# Altium schematic symbol library Interface_I2C.SchLib: 424 symbols (part 8 of 23)
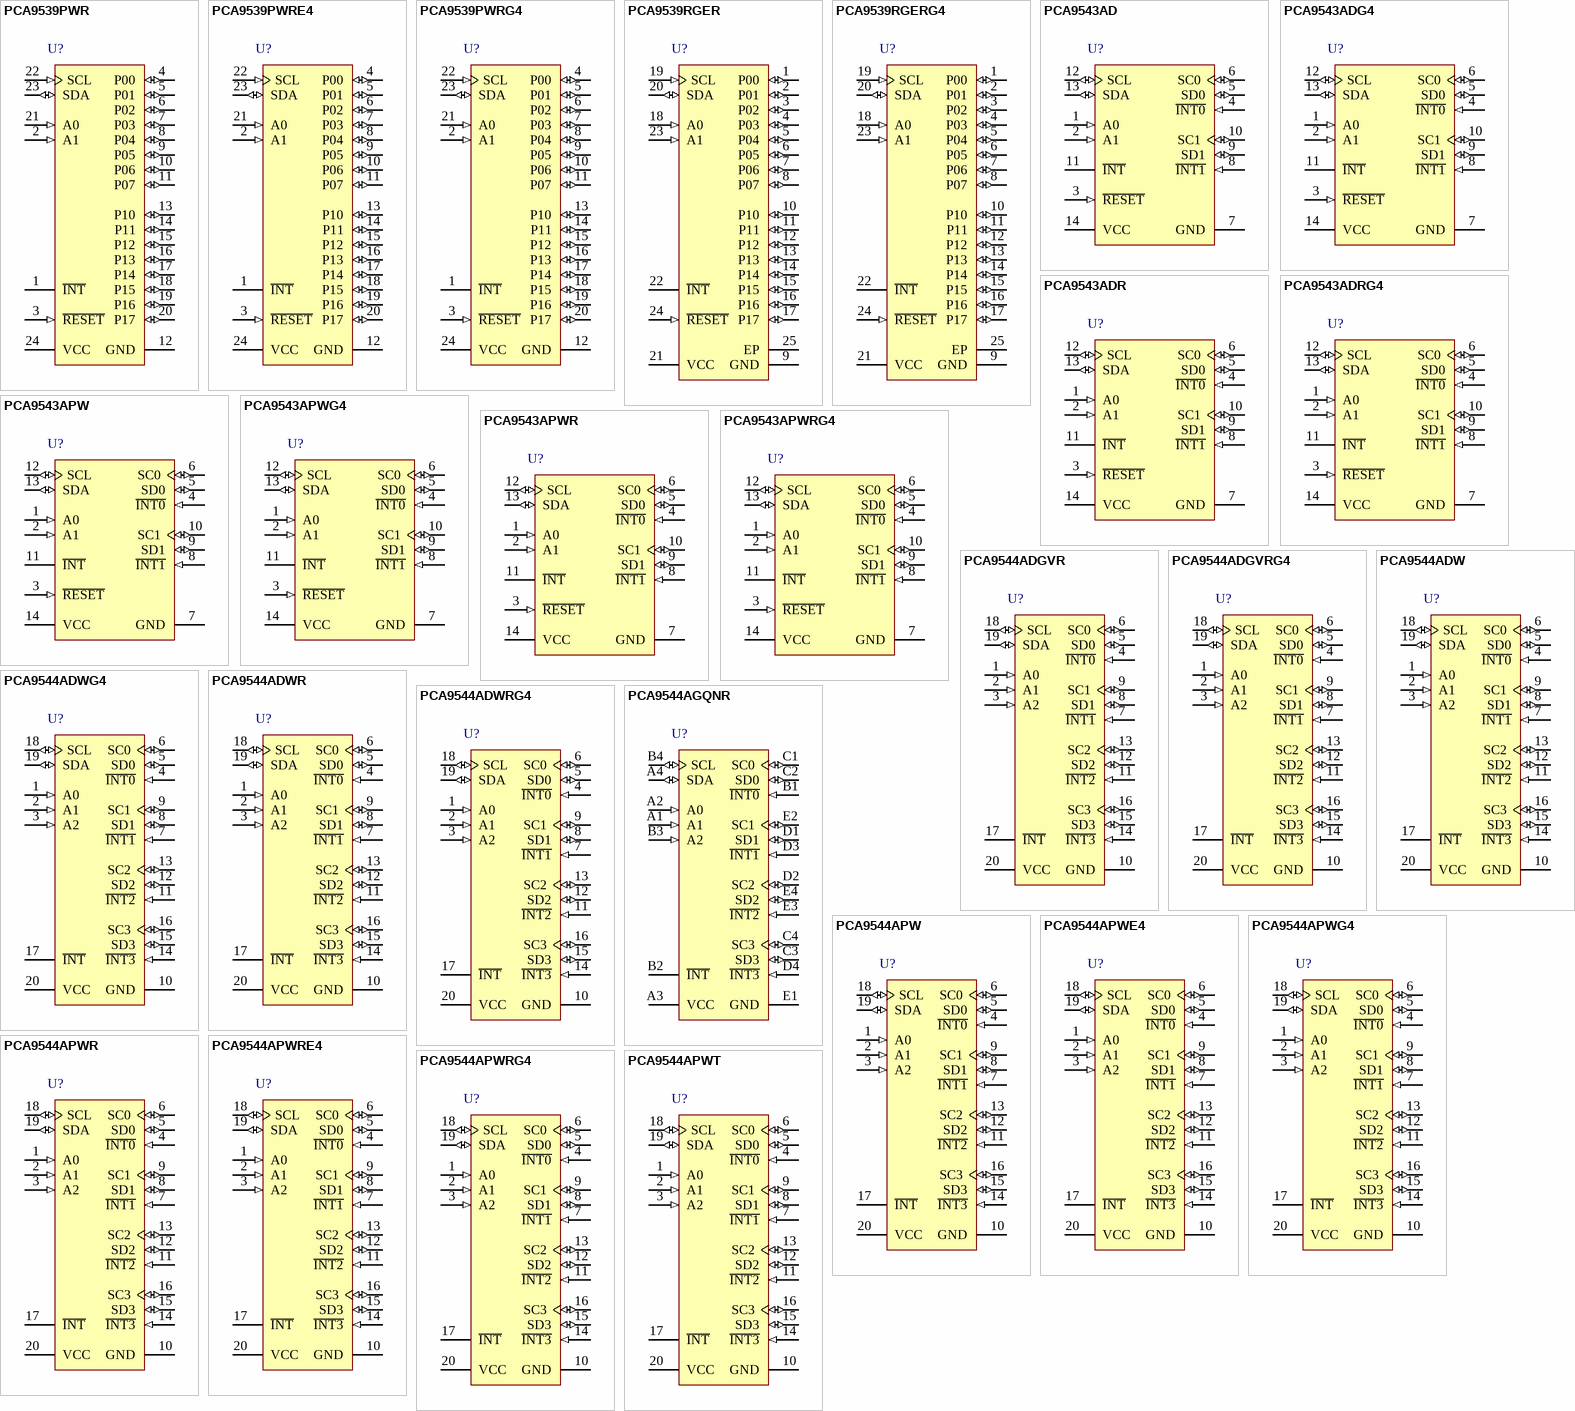
[diagram p20: symbols PCA9539PWR to PCA9544APWT]

## PCA9539RGERG4
designator U?
Remote 16-Bit I2C and SMBus, Low-Power I/O Expander with Interrupt Output, Reset & Config. Registers, 2.3 to 5.5 V, -40 to 85 degC, 24-pin VQFN (RGE), Green (RoHS & no Sb/Br); Manufacturer: Texas Instruments; PartNumber: PCA9539RGERG4; SubFamily: I2C IO Expander; No. of Outputs: 2; Interrupt Output: Yes; fSCLK(Max)(MHz): 400; VCC(Min)(V): 2.3; VCC(Max)(V): 5.5; I2C Address: 1110 1xx; # of I/Os: 16; DatasheetVersion: SCPS130F; PackageVersion: revG, Jul-2011; PackageReference: RGE24-2100X2100TP; PackageDescription: 24-Pin Plastic Quad Flatpack No-Lead, 4 x 4 mm Body, 0.5 mm Pitch; Supplier 1: Digi-Key; Supplier Part Number 1: PCA9539RGERG4-ND; Supplier 2: Newark; Supplier Part Number 2: 45M9691; Supplier 3: Mouser; Supplier Part Number 3: 595-PCA9539RGERG4; Eco-Plan: Green (RoHS & no Sb/Br); Reset Input: Yes; Max Frequency(kHz): 400; Vcc range(V): 2.3 to 5.5; Low Power: Yes; Configuration Registers: Yes; 5V Tolerant I/O: Yes; Push-Pull I/O Type: Yes; Mounting Technology: Surface Mount; Code_JEDEC: MO-220; ComponentLink1Description: Datasheet; ComponentLink1URL: http://www.ti.com/general/docs/lit/getliterature.tsp?genericPartNumber=PCA9539&fileType=pdf; ComponentLink2Description: Package Specification; ComponentLink2URL: http://www.ti.com/litv/pdf/msso002e
footprint RGE24-2100X2100TP (QFN, 24-Leads, Body 4x4mm, Pitch 0.5mm, Thermal Pad 2.1x2.1mm, TI Recommended)
pins: 1 P00 (io) "P-port input/output. Push-pull design structure.", 2 P01 (io) "P-port input/output. Push-pull design structure.", 3 P02 (io) "P-port input/output. Push-pull design structure.", 4 P03 (io) "P-port input/output. Push-pull design structure.", 5 P04 (io) "P-port input/output. Push-pull design structure.", 6 P05 (io) "P-port input/output. Push-pull design structure.", 7 P06 (io) "P-port input/output. Push-pull design structure.", 8 P07 (io) "P-port input/output. Push-pull design structure.", 9 GND (power) "Ground", 10 P10 (io) "P-port input/output. Push-pull design structure.", 11 P11 (io) "P-port input/output. Push-pull design structure.", 12 P12 (io) "P-port input/output. Push-pull design structure.", 13 P13 (io) "P-port input/output. Push-pull design structure.", 14 P14 (io) "P-port input/output. Push-pull design structure.", 15 P15 (io) "P-port input/output. Push-pull design structure.", 16 P16 (io) "P-port input/output. Push-pull design structure.", 17 P17 (io) "P-port input/output. Push-pull design structure.", 18 A0 (in) "Address input. Connect directly to VCC or ground.", 19 SCL (in) "Serial clock bus. Connect to VCC through a pullup resistor.", 20 SDA (io) "Serial data bus. Connect to VCC through a pullup resistor.", 21 VCC (power) "Supply voltage", 22 ~{INT} (oc) "Interrupt output. Connect to VCC through a pullup resistor.", 23 A1 (in) "Address input. Connect directly to VCC or ground.", 24 ~{RESET} (in) "Active-low reset input. Connect to VCC  through a pullup resistor, if no active connection is used.", 25 EP "Exposed thermal pad"

## PCA9543AD
designator U?
Two-Channel I2C-Bus Switch with Interrupt Logic and Reset, 2.3 to 5.5 V, -40 to 85 degC, 14-pin SOIC (D), Green (RoHS & no Sb/Br); Manufacturer: Texas Instruments; PartNumber: PCA9543AD; SubFamily: I2C Multiplexer, Switch; tpd max(ns): 0.3, 1; Interrupt Output: Yes; fSCLK(Max)(MHz): 400; VCC(Min)(V): 2.3; VCC(Max)(V): 5.5; I2C Address: 1110 0xx; Channel Width: 2; Simultaneously Active Channels: 1 to 2; DatasheetVersion: SCPS169; PackageVersion: revM, Jun-2011; PackageReference: D14; PackageDescription: 14-Pin Plastic Small Outline Integrated Circuit, 8.7 x 3.9 mm, Pitch 1.27 mm Pitch; Supplier 1: Digi-Key; Supplier Part Number 1: PCA9543ADTI-ND; Supplier 2: Newark; Supplier Part Number 2: 58M1085; Supplier 3: Mouser; Supplier Part Number 3: 595-PCA9543AD; Eco-Plan: Green (RoHS & no Sb/Br); Max Frequency(kHz): 400; Vcc range(V): 2.3 to 5.5; Reset Input: Yes; 5V Tolerant I/O: Yes; Open Drain I/O Type: Yes; Mounting Technology: Surface Mount; Code_JEDEC: MS-012AB; ComponentLink1Description: Datasheet; ComponentLink1URL: http://www.ti.com/general/docs/lit/getliterature.tsp?genericPartNumber=PCA9543A&fileType=pdf; ComponentLink2Description: Package Specification; ComponentLink2URL: http://www.ti.com/litv/pdf/mpds177g
footprint D14_N (SOIC, 14-Leads, Body 8.7x3.9mm, Pitch 1.27mm, IPC Medium Density)
footprint D14_L (SOIC, 14-Leads, Body 8.7x3.9mm, Pitch 1.27mm, IPC High Density)
footprint D14_M (SOIC, 14-Leads, Body 8.7x3.9mm, Pitch 1.27mm, IPC Low Density)
pins: 1 A0 (in) "Address input 0. Connect directly to VCC or ground.", 2 A1 (in) "Address input 1. Connect directly to VCC or ground.", 3 ~{RESET} (in) "Active-low reset input. Connect to VCC through a pullup resistor, if not used.", 4 ~{INT0} (in) "Active-low interrupt input 0. Connect to VCC through a pullup resistor.", 5 SD0 (io) "Serial data 0. Connect to VCC through a pullup resistor.", 6 SC0 (io) "Serial clock 0. Connect to VCC through a pullup resistor.", 7 GND (power) "Ground", 8 ~{INT1} (in) "Active-low interrupt input 1. Connect to VCC through a pullup resistor.", 9 SD1 (io) "Serial data 1. Connect to VCC through a pullup resistor.", 10 SC1 (io) "Serial clock 1. Connect to VCC through a pullup resistor.", 11 ~{INT} (oc) "Active-low interrupt output. Connect to VCC through a pullup resistor.", 12 SCL (io) "Serial clock line. Connect to VCC through a pullup resistor.", 13 SDA (io) "Serial data line. Connect to VCC through a pullup resistor.", 14 VCC (power) "Supply power"

## PCA9543ADG4
designator U?
Two-Channel I2C-Bus Switch with Interrupt Logic and Reset, 2.3 to 5.5 V, -40 to 85 degC, 14-pin SOIC (D), Green (RoHS & no Sb/Br); Manufacturer: Texas Instruments; PartNumber: PCA9543ADG4; SubFamily: I2C Multiplexer, Switch; tpd max(ns): 0.3, 1; Interrupt Output: Yes; fSCLK(Max)(MHz): 400; VCC(Min)(V): 2.3; VCC(Max)(V): 5.5; I2C Address: 1110 0xx; Channel Width: 2; Simultaneously Active Channels: 1 to 2; DatasheetVersion: SCPS169; PackageVersion: revM, Jun-2011; PackageReference: D14; PackageDescription: 14-Pin Plastic Small Outline Integrated Circuit, 8.7 x 3.9 mm, Pitch 1.27 mm Pitch; Supplier 1: Digi-Key; Supplier Part Number 1: PCA9543ADG4-ND; Supplier 2: Newark; Supplier Part Number 2: 60M1712; Supplier 3: Mouser; Supplier Part Number 3: 595-PCA9543ADG4; Eco-Plan: Green (RoHS & no Sb/Br); Max Frequency(kHz): 400; Vcc range(V): 2.3 to 5.5; Reset Input: Yes; 5V Tolerant I/O: Yes; Open Drain I/O Type: Yes; Mounting Technology: Surface Mount; Code_JEDEC: MS-012AB; ComponentLink1Description: Datasheet; ComponentLink1URL: http://www.ti.com/general/docs/lit/getliterature.tsp?genericPartNumber=PCA9543A&fileType=pdf; ComponentLink2Description: Package Specification; ComponentLink2URL: http://www.ti.com/litv/pdf/mpds177g
footprint D14_N (SOIC, 14-Leads, Body 8.7x3.9mm, Pitch 1.27mm, IPC Medium Density)
footprint D14_L (SOIC, 14-Leads, Body 8.7x3.9mm, Pitch 1.27mm, IPC High Density)
footprint D14_M (SOIC, 14-Leads, Body 8.7x3.9mm, Pitch 1.27mm, IPC Low Density)
pins: 1 A0 (in) "Address input 0. Connect directly to VCC or ground.", 2 A1 (in) "Address input 1. Connect directly to VCC or ground.", 3 ~{RESET} (in) "Active-low reset input. Connect to VCC through a pullup resistor, if not used.", 4 ~{INT0} (in) "Active-low interrupt input 0. Connect to VCC through a pullup resistor.", 5 SD0 (io) "Serial data 0. Connect to VCC through a pullup resistor.", 6 SC0 (io) "Serial clock 0. Connect to VCC through a pullup resistor.", 7 GND (power) "Ground", 8 ~{INT1} (in) "Active-low interrupt input 1. Connect to VCC through a pullup resistor.", 9 SD1 (io) "Serial data 1. Connect to VCC through a pullup resistor.", 10 SC1 (io) "Serial clock 1. Connect to VCC through a pullup resistor.", 11 ~{INT} (oc) "Active-low interrupt output. Connect to VCC through a pullup resistor.", 12 SCL (io) "Serial clock line. Connect to VCC through a pullup resistor.", 13 SDA (io) "Serial data line. Connect to VCC through a pullup resistor.", 14 VCC (power) "Supply power"

## PCA9543ADR
designator U?
Two-Channel I2C-Bus Switch with Interrupt Logic and Reset, 2.3 to 5.5 V, -40 to 85 degC, 14-pin SOIC (D), Green (RoHS & no Sb/Br); Manufacturer: Texas Instruments; PartNumber: PCA9543ADR; SubFamily: I2C Multiplexer, Switch; tpd max(ns): 0.3, 1; Interrupt Output: Yes; fSCLK(Max)(MHz): 400; VCC(Min)(V): 2.3; VCC(Max)(V): 5.5; I2C Address: 1110 0xx; Channel Width: 2; Simultaneously Active Channels: 1 to 2; DatasheetVersion: SCPS169; PackageVersion: revM, Jun-2011; PackageReference: D14; PackageDescription: 14-Pin Plastic Small Outline Integrated Circuit, 8.7 x 3.9 mm, Pitch 1.27 mm Pitch; Supplier 1: Digi-Key; Supplier Part Number 1: 296-22769-2-ND; Supplier 2: Digi-Key; Supplier Part Number 2: 296-22769-1-ND; Supplier 3: Digi-Key; Supplier Part Number 3: 296-22769-6-ND; Supplier 4: Newark; Supplier Part Number 4: 58M1086; Supplier 5: Mouser; Supplier Part Number 5: 595-PCA9543ADR; Eco-Plan: Green (RoHS & no Sb/Br); Max Frequency(kHz): 400; Vcc range(V): 2.3 to 5.5; Reset Input: Yes; 5V Tolerant I/O: Yes; Open Drain I/O Type: Yes; Mounting Technology: Surface Mount; Code_JEDEC: MS-012AB; ComponentLink1Description: Datasheet; ComponentLink1URL: http://www.ti.com/general/docs/lit/getliterature.tsp?genericPartNumber=PCA9543A&fileType=pdf; ComponentLink2Description: Package Specification; ComponentLink2URL: http://www.ti.com/litv/pdf/mpds177g
footprint D14_N (SOIC, 14-Leads, Body 8.7x3.9mm, Pitch 1.27mm, IPC Medium Density)
footprint D14_L (SOIC, 14-Leads, Body 8.7x3.9mm, Pitch 1.27mm, IPC High Density)
footprint D14_M (SOIC, 14-Leads, Body 8.7x3.9mm, Pitch 1.27mm, IPC Low Density)
pins: 1 A0 (in) "Address input 0. Connect directly to VCC or ground.", 2 A1 (in) "Address input 1. Connect directly to VCC or ground.", 3 ~{RESET} (in) "Active-low reset input. Connect to VCC through a pullup resistor, if not used.", 4 ~{INT0} (in) "Active-low interrupt input 0. Connect to VCC through a pullup resistor.", 5 SD0 (io) "Serial data 0. Connect to VCC through a pullup resistor.", 6 SC0 (io) "Serial clock 0. Connect to VCC through a pullup resistor.", 7 GND (power) "Ground", 8 ~{INT1} (in) "Active-low interrupt input 1. Connect to VCC through a pullup resistor.", 9 SD1 (io) "Serial data 1. Connect to VCC through a pullup resistor.", 10 SC1 (io) "Serial clock 1. Connect to VCC through a pullup resistor.", 11 ~{INT} (oc) "Active-low interrupt output. Connect to VCC through a pullup resistor.", 12 SCL (io) "Serial clock line. Connect to VCC through a pullup resistor.", 13 SDA (io) "Serial data line. Connect to VCC through a pullup resistor.", 14 VCC (power) "Supply power"

## PCA9543ADRG4
designator U?
Two-Channel I2C-Bus Switch with Interrupt Logic and Reset, 2.3 to 5.5 V, -40 to 85 degC, 14-pin SOIC (D), Green (RoHS & no Sb/Br); Manufacturer: Texas Instruments; PartNumber: PCA9543ADRG4; SubFamily: I2C Multiplexer, Switch; tpd max(ns): 0.3, 1; Interrupt Output: Yes; fSCLK(Max)(MHz): 400; VCC(Min)(V): 2.3; VCC(Max)(V): 5.5; I2C Address: 1110 0xx; Channel Width: 2; Simultaneously Active Channels: 1 to 2; DatasheetVersion: SCPS169; PackageVersion: revM, Jun-2011; PackageReference: D14; PackageDescription: 14-Pin Plastic Small Outline Integrated Circuit, 8.7 x 3.9 mm, Pitch 1.27 mm Pitch; Supplier 1: Digi-Key; Supplier Part Number 1: PCA9543ADRG4-ND; Supplier 2: Mouser; Supplier Part Number 2: 595-PCA9543ADRG4; Eco-Plan: Green (RoHS & no Sb/Br); Max Frequency(kHz): 400; Vcc range(V): 2.3 to 5.5; Reset Input: Yes; 5V Tolerant I/O: Yes; Open Drain I/O Type: Yes; Mounting Technology: Surface Mount; Code_JEDEC: MS-012AB; ComponentLink1Description: Datasheet; ComponentLink1URL: http://www.ti.com/general/docs/lit/getliterature.tsp?genericPartNumber=PCA9543A&fileType=pdf; ComponentLink2Description: Package Specification; ComponentLink2URL: http://www.ti.com/litv/pdf/mpds177g
footprint D14_N (SOIC, 14-Leads, Body 8.7x3.9mm, Pitch 1.27mm, IPC Medium Density)
footprint D14_L (SOIC, 14-Leads, Body 8.7x3.9mm, Pitch 1.27mm, IPC High Density)
footprint D14_M (SOIC, 14-Leads, Body 8.7x3.9mm, Pitch 1.27mm, IPC Low Density)
pins: 1 A0 (in) "Address input 0. Connect directly to VCC or ground.", 2 A1 (in) "Address input 1. Connect directly to VCC or ground.", 3 ~{RESET} (in) "Active-low reset input. Connect to VCC through a pullup resistor, if not used.", 4 ~{INT0} (in) "Active-low interrupt input 0. Connect to VCC through a pullup resistor.", 5 SD0 (io) "Serial data 0. Connect to VCC through a pullup resistor.", 6 SC0 (io) "Serial clock 0. Connect to VCC through a pullup resistor.", 7 GND (power) "Ground", 8 ~{INT1} (in) "Active-low interrupt input 1. Connect to VCC through a pullup resistor.", 9 SD1 (io) "Serial data 1. Connect to VCC through a pullup resistor.", 10 SC1 (io) "Serial clock 1. Connect to VCC through a pullup resistor.", 11 ~{INT} (oc) "Active-low interrupt output. Connect to VCC through a pullup resistor.", 12 SCL (io) "Serial clock line. Connect to VCC through a pullup resistor.", 13 SDA (io) "Serial data line. Connect to VCC through a pullup resistor.", 14 VCC (power) "Supply power"

## PCA9543APW
designator U?
Two-Channel I2C-Bus Switch with Interrupt Logic and Reset, 2.3 to 5.5 V, -40 to 85 degC, 14-pin TSSOP (PW), Green (RoHS & no Sb/Br); Manufacturer: Texas Instruments; PartNumber: PCA9543APW; SubFamily: I2C Multiplexer, Switch; tpd max(ns): 0.3, 1; Interrupt Output: Yes; fSCLK(Max)(MHz): 400; VCC(Min)(V): 2.3; VCC(Max)(V): 5.5; I2C Address: 1110 0xx; Channel Width: 2; Simultaneously Active Channels: 1 to 2; DatasheetVersion: SCPS169; PackageVersion: revG, Feb-2011; PackageReference: PW14; PackageDescription: 14-Pin Thin Small Outline Package 0.65 mm Pitch; Supplier 1: Digi-Key; Supplier Part Number 1: PCA9543APWTI-ND; Supplier 2: Newark; Supplier Part Number 2: 58M1087; Supplier 3: Mouser; Supplier Part Number 3: 595-PCA9543APW; Eco-Plan: Green (RoHS & no Sb/Br); Max Frequency(kHz): 400; Vcc range(V): 2.3 to 5.5; Reset Input: Yes; 5V Tolerant I/O: Yes; Open Drain I/O Type: Yes; Mounting Technology: Surface Mount; Code_JEDEC: MO-153; ComponentLink1Description: Datasheet; ComponentLink1URL: http://www.ti.com/general/docs/lit/getliterature.tsp?genericPartNumber=PCA9543A&fileType=pdf; ComponentLink2Description: Package Specification; ComponentLink2URL: http://www.ti.com/litv/pdf/mpds177g
footprint PW14_N (TSOP, 14-Leads, Body 5x4.4mm, Pitch 0.65mm, IPC Medium Density)
footprint PW14_L (TSOP, 14-Leads, Body 5x4.4mm, Pitch 0.65mm, IPC High Density)
footprint PW14_M (TSOP, 14-Leads, Body 5x4.4mm, Pitch 0.65mm, IPC Low Density)
pins: 1 A0 (in) "Address input 0. Connect directly to VCC or ground.", 2 A1 (in) "Address input 1. Connect directly to VCC or ground.", 3 ~{RESET} (in) "Active-low reset input. Connect to VCC through a pullup resistor, if not used.", 4 ~{INT0} (in) "Active-low interrupt input 0. Connect to VCC through a pullup resistor.", 5 SD0 (io) "Serial data 0. Connect to VCC through a pullup resistor.", 6 SC0 (io) "Serial clock 0. Connect to VCC through a pullup resistor.", 7 GND (power) "Ground", 8 ~{INT1} (in) "Active-low interrupt input 1. Connect to VCC through a pullup resistor.", 9 SD1 (io) "Serial data 1. Connect to VCC through a pullup resistor.", 10 SC1 (io) "Serial clock 1. Connect to VCC through a pullup resistor.", 11 ~{INT} (oc) "Active-low interrupt output. Connect to VCC through a pullup resistor.", 12 SCL (io) "Serial clock line. Connect to VCC through a pullup resistor.", 13 SDA (io) "Serial data line. Connect to VCC through a pullup resistor.", 14 VCC (power) "Supply power"

## PCA9543APWG4
designator U?
Two-Channel I2C-Bus Switch with Interrupt Logic and Reset, 2.3 to 5.5 V, -40 to 85 degC, 14-pin TSSOP (PW), Green (RoHS & no Sb/Br); Manufacturer: Texas Instruments; PartNumber: PCA9543APWG4; SubFamily: I2C Multiplexer, Switch; tpd max(ns): 0.3, 1; Interrupt Output: Yes; fSCLK(Max)(MHz): 400; VCC(Min)(V): 2.3; VCC(Max)(V): 5.5; I2C Address: 1110 0xx; Channel Width: 2; Simultaneously Active Channels: 1 to 2; DatasheetVersion: SCPS169; PackageVersion: revG, Feb-2011; PackageReference: PW14; PackageDescription: 14-Pin Thin Small Outline Package 0.65 mm Pitch; Supplier 1: Digi-Key; Supplier Part Number 1: PCA9543APWG4-ND; Supplier 2: Mouser; Supplier Part Number 2: 595-PCA9543APWG4; Eco-Plan: Green (RoHS & no Sb/Br); Max Frequency(kHz): 400; Vcc range(V): 2.3 to 5.5; Reset Input: Yes; 5V Tolerant I/O: Yes; Open Drain I/O Type: Yes; Mounting Technology: Surface Mount; Code_JEDEC: MO-153; ComponentLink1Description: Datasheet; ComponentLink1URL: http://www.ti.com/general/docs/lit/getliterature.tsp?genericPartNumber=PCA9543A&fileType=pdf; ComponentLink2Description: Package Specification; ComponentLink2URL: http://www.ti.com/litv/pdf/mpds177g
footprint PW14_N (TSOP, 14-Leads, Body 5x4.4mm, Pitch 0.65mm, IPC Medium Density)
footprint PW14_L (TSOP, 14-Leads, Body 5x4.4mm, Pitch 0.65mm, IPC High Density)
footprint PW14_M (TSOP, 14-Leads, Body 5x4.4mm, Pitch 0.65mm, IPC Low Density)
pins: 1 A0 (in) "Address input 0. Connect directly to VCC or ground.", 2 A1 (in) "Address input 1. Connect directly to VCC or ground.", 3 ~{RESET} (in) "Active-low reset input. Connect to VCC through a pullup resistor, if not used.", 4 ~{INT0} (in) "Active-low interrupt input 0. Connect to VCC through a pullup resistor.", 5 SD0 (io) "Serial data 0. Connect to VCC through a pullup resistor.", 6 SC0 (io) "Serial clock 0. Connect to VCC through a pullup resistor.", 7 GND (power) "Ground", 8 ~{INT1} (in) "Active-low interrupt input 1. Connect to VCC through a pullup resistor.", 9 SD1 (io) "Serial data 1. Connect to VCC through a pullup resistor.", 10 SC1 (io) "Serial clock 1. Connect to VCC through a pullup resistor.", 11 ~{INT} (oc) "Active-low interrupt output. Connect to VCC through a pullup resistor.", 12 SCL (io) "Serial clock line. Connect to VCC through a pullup resistor.", 13 SDA (io) "Serial data line. Connect to VCC through a pullup resistor.", 14 VCC (power) "Supply power"

## PCA9543APWR
designator U?
Two-Channel I2C-Bus Switch with Interrupt Logic and Reset, 2.3 to 5.5 V, -40 to 85 degC, 14-pin TSSOP (PW), Green (RoHS & no Sb/Br); Manufacturer: Texas Instruments; PartNumber: PCA9543APWR; SubFamily: I2C Multiplexer, Switch; tpd max(ns): 0.3, 1; Interrupt Output: Yes; fSCLK(Max)(MHz): 400; VCC(Min)(V): 2.3; VCC(Max)(V): 5.5; I2C Address: 1110 0xx; Channel Width: 2; Simultaneously Active Channels: 1 to 2; DatasheetVersion: SCPS169; PackageVersion: revG, Feb-2011; PackageReference: PW14; PackageDescription: 14-Pin Thin Small Outline Package 0.65 mm Pitch; Supplier 1: Digi-Key; Supplier Part Number 1: 296-22770-2-ND; Supplier 2: Digi-Key; Supplier Part Number 2: 296-22770-1-ND; Supplier 3: Digi-Key; Supplier Part Number 3: 296-22770-6-ND; Supplier 4: Mouser; Supplier Part Number 4: 595-PCA9543APWR; Eco-Plan: Green (RoHS & no Sb/Br); Max Frequency(kHz): 400; Vcc range(V): 2.3 to 5.5; Reset Input: Yes; 5V Tolerant I/O: Yes; Open Drain I/O Type: Yes; Mounting Technology: Surface Mount; Code_JEDEC: MO-153; ComponentLink1Description: Datasheet; ComponentLink1URL: http://www.ti.com/general/docs/lit/getliterature.tsp?genericPartNumber=PCA9543A&fileType=pdf; ComponentLink2Description: Package Specification; ComponentLink2URL: http://www.ti.com/litv/pdf/mpds177g
footprint PW14_N (TSOP, 14-Leads, Body 5x4.4mm, Pitch 0.65mm, IPC Medium Density)
footprint PW14_L (TSOP, 14-Leads, Body 5x4.4mm, Pitch 0.65mm, IPC High Density)
footprint PW14_M (TSOP, 14-Leads, Body 5x4.4mm, Pitch 0.65mm, IPC Low Density)
pins: 1 A0 (in) "Address input 0. Connect directly to VCC or ground.", 2 A1 (in) "Address input 1. Connect directly to VCC or ground.", 3 ~{RESET} (in) "Active-low reset input. Connect to VCC through a pullup resistor, if not used.", 4 ~{INT0} (in) "Active-low interrupt input 0. Connect to VCC through a pullup resistor.", 5 SD0 (io) "Serial data 0. Connect to VCC through a pullup resistor.", 6 SC0 (io) "Serial clock 0. Connect to VCC through a pullup resistor.", 7 GND (power) "Ground", 8 ~{INT1} (in) "Active-low interrupt input 1. Connect to VCC through a pullup resistor.", 9 SD1 (io) "Serial data 1. Connect to VCC through a pullup resistor.", 10 SC1 (io) "Serial clock 1. Connect to VCC through a pullup resistor.", 11 ~{INT} (oc) "Active-low interrupt output. Connect to VCC through a pullup resistor.", 12 SCL (io) "Serial clock line. Connect to VCC through a pullup resistor.", 13 SDA (io) "Serial data line. Connect to VCC through a pullup resistor.", 14 VCC (power) "Supply power"

## PCA9543APWRG4
designator U?
Two-Channel I2C-Bus Switch with Interrupt Logic and Reset, 2.3 to 5.5 V, -40 to 85 degC, 14-pin TSSOP (PW), Green (RoHS & no Sb/Br); Manufacturer: Texas Instruments; PartNumber: PCA9543APWRG4; SubFamily: I2C Multiplexer, Switch; tpd max(ns): 0.3, 1; Interrupt Output: Yes; fSCLK(Max)(MHz): 400; VCC(Min)(V): 2.3; VCC(Max)(V): 5.5; I2C Address: 1110 0xx; Channel Width: 2; Simultaneously Active Channels: 1 to 2; DatasheetVersion: SCPS169; PackageVersion: revG, Feb-2011; PackageReference: PW14; PackageDescription: 14-Pin Thin Small Outline Package 0.65 mm Pitch; Supplier 1: Digi-Key; Supplier Part Number 1: PCA9543APWRG4-ND; Supplier 2: Mouser; Supplier Part Number 2: 595-PCA9543APWRG4; Eco-Plan: Green (RoHS & no Sb/Br); Max Frequency(kHz): 400; Vcc range(V): 2.3 to 5.5; Reset Input: Yes; 5V Tolerant I/O: Yes; Open Drain I/O Type: Yes; Mounting Technology: Surface Mount; Code_JEDEC: MO-153; ComponentLink1Description: Datasheet; ComponentLink1URL: http://www.ti.com/general/docs/lit/getliterature.tsp?genericPartNumber=PCA9543A&fileType=pdf; ComponentLink2Description: Package Specification; ComponentLink2URL: http://www.ti.com/litv/pdf/mpds177g
footprint PW14_N (TSOP, 14-Leads, Body 5x4.4mm, Pitch 0.65mm, IPC Medium Density)
footprint PW14_L (TSOP, 14-Leads, Body 5x4.4mm, Pitch 0.65mm, IPC High Density)
footprint PW14_M (TSOP, 14-Leads, Body 5x4.4mm, Pitch 0.65mm, IPC Low Density)
pins: 1 A0 (in) "Address input 0. Connect directly to VCC or ground.", 2 A1 (in) "Address input 1. Connect directly to VCC or ground.", 3 ~{RESET} (in) "Active-low reset input. Connect to VCC through a pullup resistor, if not used.", 4 ~{INT0} (in) "Active-low interrupt input 0. Connect to VCC through a pullup resistor.", 5 SD0 (io) "Serial data 0. Connect to VCC through a pullup resistor.", 6 SC0 (io) "Serial clock 0. Connect to VCC through a pullup resistor.", 7 GND (power) "Ground", 8 ~{INT1} (in) "Active-low interrupt input 1. Connect to VCC through a pullup resistor.", 9 SD1 (io) "Serial data 1. Connect to VCC through a pullup resistor.", 10 SC1 (io) "Serial clock 1. Connect to VCC through a pullup resistor.", 11 ~{INT} (oc) "Active-low interrupt output. Connect to VCC through a pullup resistor.", 12 SCL (io) "Serial clock line. Connect to VCC through a pullup resistor.", 13 SDA (io) "Serial data line. Connect to VCC through a pullup resistor.", 14 VCC (power) "Supply power"

## PCA9544ADGVR
designator U?
4-Channel I2C and SMBus Multiplexer with Interrupt Logic, 2.3 to 5.5 V, -40 to 85 degC, 20-pin TVSOP (DGV), Green (RoHS & no Sb/Br); Manufacturer: Texas Instruments; PartNumber: PCA9544ADGVR; SubFamily: I2C Multiplexer, Switch; tpd max(ns): 0.3, 1; Interrupt Output: Yes; fSCLK(Max)(MHz): 0.1, 0.4; VCC(Min)(V): 2.3; VCC(Max)(V): 5.5; Max Frequency(kHz): 400; I2C Address: 1110 xxx; Channel Width: 4; Simultaneously Active Channels: 1; DatasheetVersion: SCPS146D; PackageVersion: revE, Aug-2000; PackageReference: DGV20; PackageDescription: 20-Pin Thin Shrink Small Outline Package 0.4 mm Pitch; Supplier 1: Digi-Key; Supplier Part Number 1: 296-20957-2-ND; Supplier 2: Digi-Key; Supplier Part Number 2: 296-20957-1-ND; Supplier 3: Digi-Key; Supplier Part Number 3: 296-20957-6-ND; Supplier 4: Mouser; Supplier Part Number 4: 595-PCA9544ADGVR; Eco-Plan: Green (RoHS & no Sb/Br); Vcc range(V): 2.3 to 5.5; 5V Tolerant I/O: Yes; Open Drain I/O Type: Yes; Mounting Technology: Surface Mount; Code_JEDEC: MO-194; ComponentLink1Description: Datasheet; ComponentLink1URL: http://www.ti.com/general/docs/lit/getliterature.tsp?genericPartNumber=PCA9544A&fileType=pdf; ComponentLink2Description: Package Specification; ComponentLink2URL: http://www.ti.com/litv/pdf/mpds006c
footprint DGV20_N (TSSOP, 20-Leads, Body 5x4.4mm, Pitch 0.4mm, IPC Medium Density)
footprint DGV20_L (TSSOP, 20-Leads, Body 5x4.4mm, Pitch 0.4mm, IPC High Density)
footprint DGV20_M (TSSOP, 20-Leads, Body 5x4.4mm, Pitch 0.4mm, IPC Low Density)
pins: 1 A0 (in) "Address input 0. Connect directly to VCC or ground.", 2 A1 (in) "Address input 1. Connect directly to VCC or ground.", 3 A2 (in) "Address input 2. Connect directly to VCC or ground.", 4 ~{INT0} (in) "Active-low interrupt input 0. Connect to VCC through a pullup resistor.", 5 SD0 (io) "Serial data 0. Connect to VCC through a pullup resistor.", 6 SC0 (io) "Serial clock 0. Connect to VCC through a pullup resistor.", 7 ~{INT1} (in) "Active-low interrupt input 1. Connect to VCC through a pullup resistor.", 8 SD1 (io) "Serial data 1. Connect to VCC through a pullup resistor.", 9 SC1 (io) "Serial clock 1. Connect to VCC through a pullup resistor.", 10 GND (power) "Ground", 11 ~{INT2} (in) "Active-low interrupt input 2. Connect to VCC through a pullup resistor.", 12 SD2 (io) "Serial data 2. Connect to VCC through a pullup resistor.", 13 SC2 (io) "Serial clock 2. Connect to VCC through a pullup resistor.", 14 ~{INT3} (in) "Active-low interrupt input 3. Connect to VCC through a pullup resistor.", 15 SD3 (io) "Serial data 3. Connect to VCC through a pullup resistor.", 16 SC3 (io) "Serial clock 3. Connect to VCC through a pullup resistor.", 17 ~{INT} (oc) "Active-low interrupt output. Connect to VCC through a pullup resistor.", 18 SCL (io) "Serial clock line. Connect to VCC through a pullup resistor.", 19 SDA (io) "Serial data line. Connect to VCC through a pullup resistor.", 20 VCC (power) "Supply power"

## PCA9544ADGVRG4
designator U?
4-Channel I2C and SMBus Multiplexer with Interrupt Logic, 2.3 to 5.5 V, -40 to 85 degC, 20-pin TVSOP (DGV), Green (RoHS & no Sb/Br); Manufacturer: Texas Instruments; PartNumber: PCA9544ADGVRG4; SubFamily: I2C Multiplexer, Switch; tpd max(ns): 0.3, 1; Interrupt Output: Yes; fSCLK(Max)(MHz): 0.1, 0.4; VCC(Min)(V): 2.3; VCC(Max)(V): 5.5; Max Frequency(kHz): 400; I2C Address: 1110 xxx; Channel Width: 4; Simultaneously Active Channels: 1; DatasheetVersion: SCPS146D; PackageVersion: revE, Aug-2000; PackageReference: DGV20; PackageDescription: 20-Pin Thin Shrink Small Outline Package 0.4 mm Pitch; Supplier 1: Digi-Key; Supplier Part Number 1: PCA9544ADGVRG4-ND; Supplier 2: Mouser; Supplier Part Number 2: 595-PCA9544ADGVRG4; Eco-Plan: Green (RoHS & no Sb/Br); Vcc range(V): 2.3 to 5.5; 5V Tolerant I/O: Yes; Open Drain I/O Type: Yes; Mounting Technology: Surface Mount; Code_JEDEC: MO-194; ComponentLink1Description: Datasheet; ComponentLink1URL: http://www.ti.com/general/docs/lit/getliterature.tsp?genericPartNumber=PCA9544A&fileType=pdf; ComponentLink2Description: Package Specification; ComponentLink2URL: http://www.ti.com/litv/pdf/mpds006c
footprint DGV20_N (TSSOP, 20-Leads, Body 5x4.4mm, Pitch 0.4mm, IPC Medium Density)
footprint DGV20_L (TSSOP, 20-Leads, Body 5x4.4mm, Pitch 0.4mm, IPC High Density)
footprint DGV20_M (TSSOP, 20-Leads, Body 5x4.4mm, Pitch 0.4mm, IPC Low Density)
pins: 1 A0 (in) "Address input 0. Connect directly to VCC or ground.", 2 A1 (in) "Address input 1. Connect directly to VCC or ground.", 3 A2 (in) "Address input 2. Connect directly to VCC or ground.", 4 ~{INT0} (in) "Active-low interrupt input 0. Connect to VCC through a pullup resistor.", 5 SD0 (io) "Serial data 0. Connect to VCC through a pullup resistor.", 6 SC0 (io) "Serial clock 0. Connect to VCC through a pullup resistor.", 7 ~{INT1} (in) "Active-low interrupt input 1. Connect to VCC through a pullup resistor.", 8 SD1 (io) "Serial data 1. Connect to VCC through a pullup resistor.", 9 SC1 (io) "Serial clock 1. Connect to VCC through a pullup resistor.", 10 GND (power) "Ground", 11 ~{INT2} (in) "Active-low interrupt input 2. Connect to VCC through a pullup resistor.", 12 SD2 (io) "Serial data 2. Connect to VCC through a pullup resistor.", 13 SC2 (io) "Serial clock 2. Connect to VCC through a pullup resistor.", 14 ~{INT3} (in) "Active-low interrupt input 3. Connect to VCC through a pullup resistor.", 15 SD3 (io) "Serial data 3. Connect to VCC through a pullup resistor.", 16 SC3 (io) "Serial clock 3. Connect to VCC through a pullup resistor.", 17 ~{INT} (oc) "Active-low interrupt output. Connect to VCC through a pullup resistor.", 18 SCL (io) "Serial clock line. Connect to VCC through a pullup resistor.", 19 SDA (io) "Serial data line. Connect to VCC through a pullup resistor.", 20 VCC (power) "Supply power"

## PCA9544ADW
designator U?
4-Channel I2C and SMBus Multiplexer with Interrupt Logic, 2.3 to 5.5 V, -40 to 85 degC, 20-pin SOIC (DW), Green (RoHS & no Sb/Br); Manufacturer: Texas Instruments; PartNumber: PCA9544ADW; SubFamily: I2C Multiplexer, Switch; tpd max(ns): 0.3, 1; Interrupt Output: Yes; fSCLK(Max)(MHz): 0.1, 0.4; VCC(Min)(V): 2.3; VCC(Max)(V): 5.5; Max Frequency(kHz): 400; I2C Address: 1110 xxx; Channel Width: 4; Simultaneously Active Channels: 1; DatasheetVersion: SCPS146D; PackageVersion: revG, Jan-2011; PackageReference: DW20; PackageDescription: 20-Pin Plastic Small Outline Integrated Circuit, 12.8 x 7.5 mm, Pitch 1.27 mm Pitch; Supplier 1: Digi-Key; Supplier Part Number 1: PCA9544ADW-ND; Supplier 2: Newark; Supplier Part Number 2: 66K4021; Supplier 3: Mouser; Supplier Part Number 3: 595-PCA9544ADW; Eco-Plan: Green (RoHS & no Sb/Br); Vcc range(V): 2.3 to 5.5; 5V Tolerant I/O: Yes; Open Drain I/O Type: Yes; Mounting Technology: Surface Mount; Code_JEDEC: MS-013-AC; ComponentLink1Description: Datasheet; ComponentLink1URL: http://www.ti.com/general/docs/lit/getliterature.tsp?genericPartNumber=PCA9544A&fileType=pdf; ComponentLink2Description: Package Specification; ComponentLink2URL: http://www.ti.com/litv/pdf/mpds006c
footprint DW20_N (SOIC, 20-Leads, Body 12.8x7.5mm, Pitch 1.27mm, IPC Medium Density)
footprint DW20_L (SOIC, 20-Leads, Body 12.8x7.5mm, Pitch 1.27mm, IPC High Density)
footprint DW20_M (SOIC, 20-Leads, Body 12.8x7.5mm, Pitch 1.27mm, IPC Low Density)
pins: 1 A0 (in) "Address input 0. Connect directly to VCC or ground.", 2 A1 (in) "Address input 1. Connect directly to VCC or ground.", 3 A2 (in) "Address input 2. Connect directly to VCC or ground.", 4 ~{INT0} (in) "Active-low interrupt input 0. Connect to VCC through a pullup resistor.", 5 SD0 (io) "Serial data 0. Connect to VCC through a pullup resistor.", 6 SC0 (io) "Serial clock 0. Connect to VCC through a pullup resistor.", 7 ~{INT1} (in) "Active-low interrupt input 1. Connect to VCC through a pullup resistor.", 8 SD1 (io) "Serial data 1. Connect to VCC through a pullup resistor.", 9 SC1 (io) "Serial clock 1. Connect to VCC through a pullup resistor.", 10 GND (power) "Ground", 11 ~{INT2} (in) "Active-low interrupt input 2. Connect to VCC through a pullup resistor.", 12 SD2 (io) "Serial data 2. Connect to VCC through a pullup resistor.", 13 SC2 (io) "Serial clock 2. Connect to VCC through a pullup resistor.", 14 ~{INT3} (in) "Active-low interrupt input 3. Connect to VCC through a pullup resistor.", 15 SD3 (io) "Serial data 3. Connect to VCC through a pullup resistor.", 16 SC3 (io) "Serial clock 3. Connect to VCC through a pullup resistor.", 17 ~{INT} (oc) "Active-low interrupt output. Connect to VCC through a pullup resistor.", 18 SCL (io) "Serial clock line. Connect to VCC through a pullup resistor.", 19 SDA (io) "Serial data line. Connect to VCC through a pullup resistor.", 20 VCC (power) "Supply power"

## PCA9544ADWG4
designator U?
4-Channel I2C and SMBus Multiplexer with Interrupt Logic, 2.3 to 5.5 V, -40 to 85 degC, 20-pin SOIC (DW), Green (RoHS & no Sb/Br); Manufacturer: Texas Instruments; PartNumber: PCA9544ADWG4; SubFamily: I2C Multiplexer, Switch; tpd max(ns): 0.3, 1; Interrupt Output: Yes; fSCLK(Max)(MHz): 0.1, 0.4; VCC(Min)(V): 2.3; VCC(Max)(V): 5.5; Max Frequency(kHz): 400; I2C Address: 1110 xxx; Channel Width: 4; Simultaneously Active Channels: 1; DatasheetVersion: SCPS146D; PackageVersion: revG, Jan-2011; PackageReference: DW20; PackageDescription: 20-Pin Plastic Small Outline Integrated Circuit, 12.8 x 7.5 mm, Pitch 1.27 mm Pitch; Supplier 1: Digi-Key; Supplier Part Number 1: PCA9544ADWG4-ND; Supplier 2: Mouser; Supplier Part Number 2: 595-PCA9544ADWG4; Eco-Plan: Green (RoHS & no Sb/Br); Vcc range(V): 2.3 to 5.5; 5V Tolerant I/O: Yes; Open Drain I/O Type: Yes; Mounting Technology: Surface Mount; Code_JEDEC: MS-013-AC; ComponentLink1Description: Datasheet; ComponentLink1URL: http://www.ti.com/general/docs/lit/getliterature.tsp?genericPartNumber=PCA9544A&fileType=pdf; ComponentLink2Description: Package Specification; ComponentLink2URL: http://www.ti.com/litv/pdf/mpds006c
footprint DW20_N (SOIC, 20-Leads, Body 12.8x7.5mm, Pitch 1.27mm, IPC Medium Density)
footprint DW20_L (SOIC, 20-Leads, Body 12.8x7.5mm, Pitch 1.27mm, IPC High Density)
footprint DW20_M (SOIC, 20-Leads, Body 12.8x7.5mm, Pitch 1.27mm, IPC Low Density)
pins: 1 A0 (in) "Address input 0. Connect directly to VCC or ground.", 2 A1 (in) "Address input 1. Connect directly to VCC or ground.", 3 A2 (in) "Address input 2. Connect directly to VCC or ground.", 4 ~{INT0} (in) "Active-low interrupt input 0. Connect to VCC through a pullup resistor.", 5 SD0 (io) "Serial data 0. Connect to VCC through a pullup resistor.", 6 SC0 (io) "Serial clock 0. Connect to VCC through a pullup resistor.", 7 ~{INT1} (in) "Active-low interrupt input 1. Connect to VCC through a pullup resistor.", 8 SD1 (io) "Serial data 1. Connect to VCC through a pullup resistor.", 9 SC1 (io) "Serial clock 1. Connect to VCC through a pullup resistor.", 10 GND (power) "Ground", 11 ~{INT2} (in) "Active-low interrupt input 2. Connect to VCC through a pullup resistor.", 12 SD2 (io) "Serial data 2. Connect to VCC through a pullup resistor.", 13 SC2 (io) "Serial clock 2. Connect to VCC through a pullup resistor.", 14 ~{INT3} (in) "Active-low interrupt input 3. Connect to VCC through a pullup resistor.", 15 SD3 (io) "Serial data 3. Connect to VCC through a pullup resistor.", 16 SC3 (io) "Serial clock 3. Connect to VCC through a pullup resistor.", 17 ~{INT} (oc) "Active-low interrupt output. Connect to VCC through a pullup resistor.", 18 SCL (io) "Serial clock line. Connect to VCC through a pullup resistor.", 19 SDA (io) "Serial data line. Connect to VCC through a pullup resistor.", 20 VCC (power) "Supply power"

## PCA9544ADWR
designator U?
4-Channel I2C and SMBus Multiplexer with Interrupt Logic, 2.3 to 5.5 V, -40 to 85 degC, 20-pin SOIC (DW), Green (RoHS & no Sb/Br); Manufacturer: Texas Instruments; PartNumber: PCA9544ADWR; SubFamily: I2C Multiplexer, Switch; tpd max(ns): 0.3, 1; Interrupt Output: Yes; fSCLK(Max)(MHz): 0.1, 0.4; VCC(Min)(V): 2.3; VCC(Max)(V): 5.5; Max Frequency(kHz): 400; I2C Address: 1110 xxx; Channel Width: 4; Simultaneously Active Channels: 1; DatasheetVersion: SCPS146D; PackageVersion: revG, Jan-2011; PackageReference: DW20; PackageDescription: 20-Pin Plastic Small Outline Integrated Circuit, 12.8 x 7.5 mm, Pitch 1.27 mm Pitch; Supplier 1: Digi-Key; Supplier Part Number 1: 296-20958-2-ND; Supplier 2: Digi-Key; Supplier Part Number 2: 296-20958-1-ND; Supplier 3: Digi-Key; Supplier Part Number 3: 296-20958-6-ND; Supplier 4: Newark; Supplier Part Number 4: 66K4022; Supplier 5: Mouser; Supplier Part Number 5: 595-PCA9544ADWR; Eco-Plan: Green (RoHS & no Sb/Br); Vcc range(V): 2.3 to 5.5; 5V Tolerant I/O: Yes; Open Drain I/O Type: Yes; Mounting Technology: Surface Mount; Code_JEDEC: MS-013-AC; ComponentLink1Description: Datasheet; ComponentLink1URL: http://www.ti.com/general/docs/lit/getliterature.tsp?genericPartNumber=PCA9544A&fileType=pdf; ComponentLink2Description: Package Specification; ComponentLink2URL: http://www.ti.com/litv/pdf/mpds006c
footprint DW20_N (SOIC, 20-Leads, Body 12.8x7.5mm, Pitch 1.27mm, IPC Medium Density)
footprint DW20_L (SOIC, 20-Leads, Body 12.8x7.5mm, Pitch 1.27mm, IPC High Density)
footprint DW20_M (SOIC, 20-Leads, Body 12.8x7.5mm, Pitch 1.27mm, IPC Low Density)
pins: 1 A0 (in) "Address input 0. Connect directly to VCC or ground.", 2 A1 (in) "Address input 1. Connect directly to VCC or ground.", 3 A2 (in) "Address input 2. Connect directly to VCC or ground.", 4 ~{INT0} (in) "Active-low interrupt input 0. Connect to VCC through a pullup resistor.", 5 SD0 (io) "Serial data 0. Connect to VCC through a pullup resistor.", 6 SC0 (io) "Serial clock 0. Connect to VCC through a pullup resistor.", 7 ~{INT1} (in) "Active-low interrupt input 1. Connect to VCC through a pullup resistor.", 8 SD1 (io) "Serial data 1. Connect to VCC through a pullup resistor.", 9 SC1 (io) "Serial clock 1. Connect to VCC through a pullup resistor.", 10 GND (power) "Ground", 11 ~{INT2} (in) "Active-low interrupt input 2. Connect to VCC through a pullup resistor.", 12 SD2 (io) "Serial data 2. Connect to VCC through a pullup resistor.", 13 SC2 (io) "Serial clock 2. Connect to VCC through a pullup resistor.", 14 ~{INT3} (in) "Active-low interrupt input 3. Connect to VCC through a pullup resistor.", 15 SD3 (io) "Serial data 3. Connect to VCC through a pullup resistor.", 16 SC3 (io) "Serial clock 3. Connect to VCC through a pullup resistor.", 17 ~{INT} (oc) "Active-low interrupt output. Connect to VCC through a pullup resistor.", 18 SCL (io) "Serial clock line. Connect to VCC through a pullup resistor.", 19 SDA (io) "Serial data line. Connect to VCC through a pullup resistor.", 20 VCC (power) "Supply power"

## PCA9544ADWRG4
designator U?
4-Channel I2C and SMBus Multiplexer with Interrupt Logic, 2.3 to 5.5 V, -40 to 85 degC, 20-pin SOIC (DW), Green (RoHS & no Sb/Br); Manufacturer: Texas Instruments; PartNumber: PCA9544ADWRG4; SubFamily: I2C Multiplexer, Switch; tpd max(ns): 0.3, 1; Interrupt Output: Yes; fSCLK(Max)(MHz): 0.1, 0.4; VCC(Min)(V): 2.3; VCC(Max)(V): 5.5; Max Frequency(kHz): 400; I2C Address: 1110 xxx; Channel Width: 4; Simultaneously Active Channels: 1; DatasheetVersion: SCPS146D; PackageVersion: revG, Jan-2011; PackageReference: DW20; PackageDescription: 20-Pin Plastic Small Outline Integrated Circuit, 12.8 x 7.5 mm, Pitch 1.27 mm Pitch; Supplier 1: Digi-Key; Supplier Part Number 1: PCA9544ADWRG4-ND; Supplier 2: Mouser; Supplier Part Number 2: 595-PCA9544ADWRG4; Eco-Plan: Green (RoHS & no Sb/Br); Vcc range(V): 2.3 to 5.5; 5V Tolerant I/O: Yes; Open Drain I/O Type: Yes; Mounting Technology: Surface Mount; Code_JEDEC: MS-013-AC; ComponentLink1Description: Datasheet; ComponentLink1URL: http://www.ti.com/general/docs/lit/getliterature.tsp?genericPartNumber=PCA9544A&fileType=pdf; ComponentLink2Description: Package Specification; ComponentLink2URL: http://www.ti.com/litv/pdf/mpds006c
footprint DW20_N (SOIC, 20-Leads, Body 12.8x7.5mm, Pitch 1.27mm, IPC Medium Density)
footprint DW20_L (SOIC, 20-Leads, Body 12.8x7.5mm, Pitch 1.27mm, IPC High Density)
footprint DW20_M (SOIC, 20-Leads, Body 12.8x7.5mm, Pitch 1.27mm, IPC Low Density)
pins: 1 A0 (in) "Address input 0. Connect directly to VCC or ground.", 2 A1 (in) "Address input 1. Connect directly to VCC or ground.", 3 A2 (in) "Address input 2. Connect directly to VCC or ground.", 4 ~{INT0} (in) "Active-low interrupt input 0. Connect to VCC through a pullup resistor.", 5 SD0 (io) "Serial data 0. Connect to VCC through a pullup resistor.", 6 SC0 (io) "Serial clock 0. Connect to VCC through a pullup resistor.", 7 ~{INT1} (in) "Active-low interrupt input 1. Connect to VCC through a pullup resistor.", 8 SD1 (io) "Serial data 1. Connect to VCC through a pullup resistor.", 9 SC1 (io) "Serial clock 1. Connect to VCC through a pullup resistor.", 10 GND (power) "Ground", 11 ~{INT2} (in) "Active-low interrupt input 2. Connect to VCC through a pullup resistor.", 12 SD2 (io) "Serial data 2. Connect to VCC through a pullup resistor.", 13 SC2 (io) "Serial clock 2. Connect to VCC through a pullup resistor.", 14 ~{INT3} (in) "Active-low interrupt input 3. Connect to VCC through a pullup resistor.", 15 SD3 (io) "Serial data 3. Connect to VCC through a pullup resistor.", 16 SC3 (io) "Serial clock 3. Connect to VCC through a pullup resistor.", 17 ~{INT} (oc) "Active-low interrupt output. Connect to VCC through a pullup resistor.", 18 SCL (io) "Serial clock line. Connect to VCC through a pullup resistor.", 19 SDA (io) "Serial data line. Connect to VCC through a pullup resistor.", 20 VCC (power) "Supply power"

## PCA9544AGQNR
designator U?
4-Channel I2C and SMBus Multiplexer with Interrupt Logic, 2.3 to 5.5 V, -40 to 85 degC, 20-pin BGA MICROSTAR JUNIOR (GQN); Manufacturer: Texas Instruments; PartNumber: PCA9544AGQNR; Eco-Plan: Green (RoHS & no Sb/Br); SubFamily: I2C Multiplexer, Switch; tpd max(ns): 0.3, 1; Interrupt Output: Yes; fSCLK(Max)(MHz): 0.1, 0.4; VCC(Min)(V): 2.3; VCC(Max)(V): 5.5; Max Frequency(kHz): 400; I2C Address: 1110 xxx; Channel Width: 4; Simultaneously Active Channels: 1; DatasheetVersion: SCPS146D; PackageVersion: revF, Jun-2007; PackageReference: GQN20; PackageDescription: 20-Ball Plastic Ball Grid Array, 4 x 3 mm Body, 0.65 mm Pitch; Supplier 1: Digi-Key; Supplier Part Number 1: PCA9544AGQNR-ND; Supplier 2: Mouser; Supplier Part Number 2: 595-PCA9544AGQNR; Vcc range(V): 2.3 to 5.5; 5V Tolerant I/O: Yes; Open Drain I/O Type: Yes; Mounting Technology: Surface Mount; Code_JEDEC: MO-285-BC-2; ComponentLink1Description: Datasheet; ComponentLink1URL: http://www.ti.com/general/docs/lit/getliterature.tsp?genericPartNumber=PCA9544A&fileType=pdf; ComponentLink2Description: Package Specification; ComponentLink2URL: http://www.ti.com/litv/pdf/mpds006c
footprint GQN20 (BGA, 20-Leads, Body 4x3mm, Pitch 0.65mm)
pins: A1 (in) "Address input 1. Connect directly to VCC or ground.", A2 A0 (in) "Address input 0. Connect directly to VCC or ground.", A3 VCC (power) "Supply power", A4 SDA (io) "Serial data line. Connect to VCC through a pullup resistor.", B1 ~{INT0} (in) "Active-low interrupt input 0. Connect to VCC through a pullup resistor.", B2 ~{INT} (oc) "Active-low interrupt output. Connect to VCC through a pullup resistor.", B3 A2 (in) "Address input 2. Connect directly to VCC or ground.", B4 SCL (io) "Serial clock line. Connect to VCC through a pullup resistor.", C1 SC0 (io) "Serial clock 0. Connect to VCC through a pullup resistor.", C2 SD0 (io) "Serial data 0. Connect to VCC through a pullup resistor.", C3 SD3 (io) "Serial data 3. Connect to VCC through a pullup resistor.", C4 SC3 (io) "Serial clock 3. Connect to VCC through a pullup resistor.", D1 SD1 (io) "Serial data 1. Connect to VCC through a pullup resistor.", D2 SC2 (io) "Serial clock 2. Connect to VCC through a pullup resistor.", D3 ~{INT1} (in) "Active-low interrupt input 1. Connect to VCC through a pullup resistor.", D4 ~{INT3} (in) "Active-low interrupt input 3. Connect to VCC through a pullup resistor.", E1 GND (power) "Ground", E2 SC1 (io) "Serial clock 1. Connect to VCC through a pullup resistor.", E3 ~{INT2} (in) "Active-low interrupt input 2. Connect to VCC through a pullup resistor.", E4 SD2 (io) "Serial data 2. Connect to VCC through a pullup resistor."

## PCA9544APW
designator U?
4-Channel I2C and SMBus Multiplexer with Interrupt Logic, 2.3 to 5.5 V, -40 to 85 degC, 0-pin TSSOP (PW), Green (RoHS & no Sb/Br); Manufacturer: Texas Instruments; PartNumber: PCA9544APW; SubFamily: I2C Multiplexer, Switch; tpd max(ns): 0.3, 1; Interrupt Output: Yes; fSCLK(Max)(MHz): 0.1, 0.4; VCC(Min)(V): 2.3; VCC(Max)(V): 5.5; Max Frequency(kHz): 400; I2C Address: 1110 xxx; Channel Width: 4; Simultaneously Active Channels: 1; DatasheetVersion: SCPS146D; PackageVersion: revG, Feb-2011; PackageReference: PW20; PackageDescription: 20-Pin Plastic Thin Small Outline Package 6.5 x 4.4 mm Body ,0.65 mm Pitch; Supplier 1: Digi-Key; Supplier Part Number 1: PCA9544APWTI-ND; Supplier 2: Farnell; Supplier Part Number 2: 1470501; Supplier 3: Newark; Supplier Part Number 3: 66K4023; Supplier 4: Mouser; Supplier Part Number 4: 595-PCA9544APW; Eco-Plan: Green (RoHS & no Sb/Br); Vcc range(V): 2.3 to 5.5; 5V Tolerant I/O: Yes; Open Drain I/O Type: Yes; Mounting Technology: Surface Mount; Code_JEDEC: MO-153; ComponentLink1Description: Datasheet; ComponentLink1URL: http://www.ti.com/general/docs/lit/getliterature.tsp?genericPartNumber=PCA9544A&fileType=pdf
footprint PW20_N (TSOP, 20-Leads, Body 6.5x4.4mm, Pitch 0.65mm, IPC Medium Density)
footprint PW20_L (TSOP, 20-Leads, Body 6.5x4.4mm, Pitch 0.65mm, IPC High Density)
footprint PW20_M (TSOP, 20-Leads, Body 6.5x4.4mm, Pitch 0.65mm, IPC Low Density)
pins: 1 A0 (in) "Address input 0. Connect directly to VCC or ground.", 2 A1 (in) "Address input 1. Connect directly to VCC or ground.", 3 A2 (in) "Address input 2. Connect directly to VCC or ground.", 4 ~{INT0} (in) "Active-low interrupt input 0. Connect to VCC through a pullup resistor.", 5 SD0 (io) "Serial data 0. Connect to VCC through a pullup resistor.", 6 SC0 (io) "Serial clock 0. Connect to VCC through a pullup resistor.", 7 ~{INT1} (in) "Active-low interrupt input 1. Connect to VCC through a pullup resistor.", 8 SD1 (io) "Serial data 1. Connect to VCC through a pullup resistor.", 9 SC1 (io) "Serial clock 1. Connect to VCC through a pullup resistor.", 10 GND (power) "Ground", 11 ~{INT2} (in) "Active-low interrupt input 2. Connect to VCC through a pullup resistor.", 12 SD2 (io) "Serial data 2. Connect to VCC through a pullup resistor.", 13 SC2 (io) "Serial clock 2. Connect to VCC through a pullup resistor.", 14 ~{INT3} (in) "Active-low interrupt input 3. Connect to VCC through a pullup resistor.", 15 SD3 (io) "Serial data 3. Connect to VCC through a pullup resistor.", 16 SC3 (io) "Serial clock 3. Connect to VCC through a pullup resistor.", 17 ~{INT} (oc) "Active-low interrupt output. Connect to VCC through a pullup resistor.", 18 SCL (io) "Serial clock line. Connect to VCC through a pullup resistor.", 19 SDA (io) "Serial data line. Connect to VCC through a pullup resistor.", 20 VCC (power) "Supply power"

## PCA9544APWE4
designator U?
4-Channel I2C and SMBus Multiplexer with Interrupt Logic, 2.3 to 5.5 V, -40 to 85 degC, 0-pin TSSOP (PW), Green (RoHS & no Sb/Br); Manufacturer: Texas Instruments; PartNumber: PCA9544APWE4; SubFamily: I2C Multiplexer, Switch; tpd max(ns): 0.3, 1; Interrupt Output: Yes; fSCLK(Max)(MHz): 0.1, 0.4; VCC(Min)(V): 2.3; VCC(Max)(V): 5.5; Max Frequency(kHz): 400; I2C Address: 1110 xxx; Channel Width: 4; Simultaneously Active Channels: 1; DatasheetVersion: SCPS146D; PackageVersion: revG, Feb-2011; PackageReference: PW20; PackageDescription: 20-Pin Plastic Thin Small Outline Package 6.5 x 4.4 mm Body ,0.65 mm Pitch; Supplier 1: Digi-Key; Supplier Part Number 1: PCA9544APWE4-ND; Supplier 2: Mouser; Supplier Part Number 2: 595-PCA9544APWE4; Eco-Plan: Green (RoHS & no Sb/Br); Vcc range(V): 2.3 to 5.5; 5V Tolerant I/O: Yes; Open Drain I/O Type: Yes; Mounting Technology: Surface Mount; Code_JEDEC: MO-153; ComponentLink1Description: Datasheet; ComponentLink1URL: http://www.ti.com/general/docs/lit/getliterature.tsp?genericPartNumber=PCA9544A&fileType=pdf
footprint PW20_N (TSOP, 20-Leads, Body 6.5x4.4mm, Pitch 0.65mm, IPC Medium Density)
footprint PW20_L (TSOP, 20-Leads, Body 6.5x4.4mm, Pitch 0.65mm, IPC High Density)
footprint PW20_M (TSOP, 20-Leads, Body 6.5x4.4mm, Pitch 0.65mm, IPC Low Density)
pins: 1 A0 (in) "Address input 0. Connect directly to VCC or ground.", 2 A1 (in) "Address input 1. Connect directly to VCC or ground.", 3 A2 (in) "Address input 2. Connect directly to VCC or ground.", 4 ~{INT0} (in) "Active-low interrupt input 0. Connect to VCC through a pullup resistor.", 5 SD0 (io) "Serial data 0. Connect to VCC through a pullup resistor.", 6 SC0 (io) "Serial clock 0. Connect to VCC through a pullup resistor.", 7 ~{INT1} (in) "Active-low interrupt input 1. Connect to VCC through a pullup resistor.", 8 SD1 (io) "Serial data 1. Connect to VCC through a pullup resistor.", 9 SC1 (io) "Serial clock 1. Connect to VCC through a pullup resistor.", 10 GND (power) "Ground", 11 ~{INT2} (in) "Active-low interrupt input 2. Connect to VCC through a pullup resistor.", 12 SD2 (io) "Serial data 2. Connect to VCC through a pullup resistor.", 13 SC2 (io) "Serial clock 2. Connect to VCC through a pullup resistor.", 14 ~{INT3} (in) "Active-low interrupt input 3. Connect to VCC through a pullup resistor.", 15 SD3 (io) "Serial data 3. Connect to VCC through a pullup resistor.", 16 SC3 (io) "Serial clock 3. Connect to VCC through a pullup resistor.", 17 ~{INT} (oc) "Active-low interrupt output. Connect to VCC through a pullup resistor.", 18 SCL (io) "Serial clock line. Connect to VCC through a pullup resistor.", 19 SDA (io) "Serial data line. Connect to VCC through a pullup resistor.", 20 VCC (power) "Supply power"